# Altium footprint library B6-1.0mm-V1.PcbLib: 12 footprints
Each footprint in its own frame and in the unit in brackets; x right, y up, seen from the top. Pads: shape width x height; smd on the part's side, far side on the other; paste and mask are expansions set on the pad; w line width, h text height; cw(c..) or ccw(c..) is an arc to the next point about the centre after c.
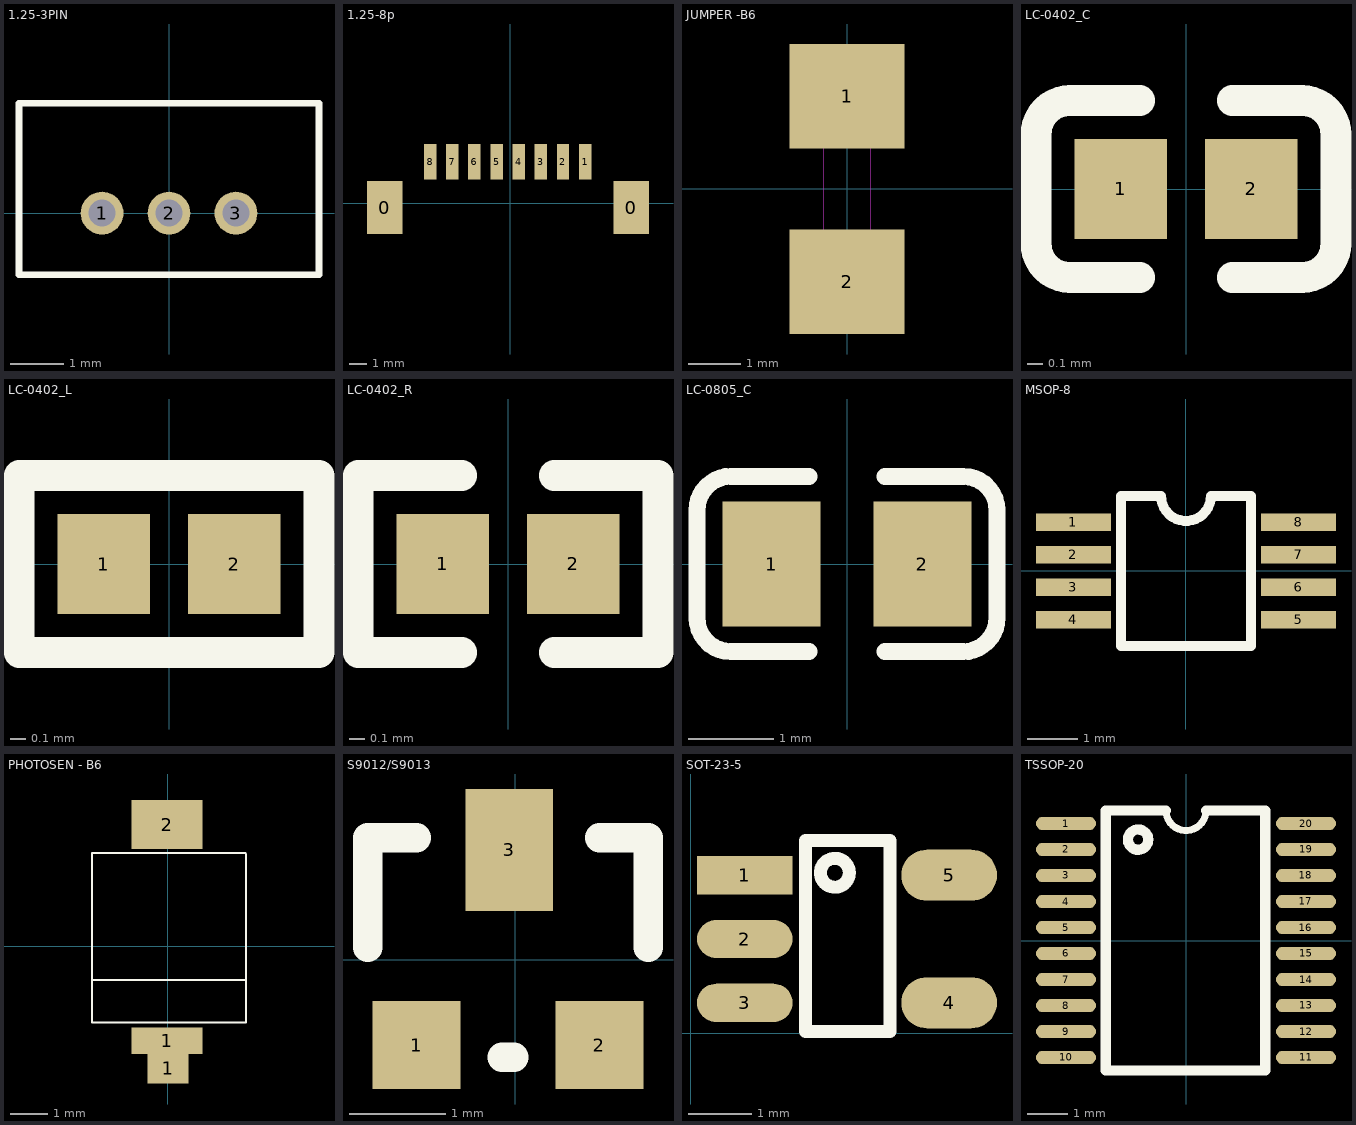
[diagram p0: the footprints below, top view; thin cyan lines are the x and y axes]

## 1.25-3PIN [mm]
height 0.102
pads (3):
  round 0.8 hole 0.5: 1(-1.25,0) 2(0,0) 3(1.25,0)
Top Overlay:
  lines w0.127: -2.8,-1.15 -2.8,2.05 2.8,2.05 2.8,-1.15 -2.8,-1.15

## 1.25-8p [mm]
pads (10):
  rect 2x3 smd: 0(-7.112,-0.254) 0(6.833,-0.254)
  rect 0.7x2 smd: 1(4.214,2.346) 2(2.964,2.346) 3(1.714,2.346) 4(0.464,2.346) 5(-0.786,2.346) 6(-2.036,2.346) 7(-3.286,2.346) 8(-4.536,2.346)

## JUMPER -B6 [mm]
height 0.102
pads (2):
  rect 2.2x2 smd: 1(0,1.778) 2(0,-1.778)
Keep-Out Layer:
  lines w0.013: -0.45,-2.35 0.45,-2.35 0.45,2.35 -0.45,2.35 -0.45,-2.35

## LC-0402_C [mm]
height 0.102
pads (2):
  rect 0.6x0.65 smd mask+0.051: 1(-0.425,0) 2(0.425,0)
Top Overlay:
  lines w0.2: -0.755,-0.575 cw(c-0.755,-0.355) -0.975,-0.355 -0.975,0.355 cw(c-0.755,0.355) -0.755,0.575 ; -0.75,-0.575 -0.3,-0.575 ; -0.75,0.575 -0.3,0.575 ; 0.3,-0.575 0.75,-0.575 ; 0.3,0.575 0.75,0.575 ; 0.755,-0.575 ccw(c0.755,-0.355) 0.975,-0.355 0.975,0.355 ccw(c0.755,0.355) 0.755,0.575
3D body: height 0.2, standoff 0, extent -0.483,-0.3 0.518,0.3

## LC-0402_L [mm]
height 0.102
pads (2):
  rect 0.6x0.65 smd mask+0.051: 1(-0.425,0) 2(0.425,0)
Top Overlay:
  lines w0.2: -0.975,-0.575 -0.975,0.575 0.975,0.575 0.975,-0.575 -0.975,-0.575
3D body: height 0.36, standoff -0.01, extent -0.512,-0.262 0.538,0.263

## LC-0402_R [mm]
height 0.102
pads (2):
  rect 0.6x0.65 smd mask+0.051: 1(-0.425,0) 2(0.425,0)
Top Overlay:
  lines w0.2: -0.3,-0.575 -0.975,-0.575 -0.975,0.575 -0.3,0.575 ; 0.3,-0.575 0.975,-0.575 0.975,0.575 0.3,0.575
3D body: height 0.41, standoff 0, extent -0.575,-0.275 0.575,0.275

## LC-0805_C [mm]
height 0.102
pads (2):
  rect 1.16x1.47 smd: 1(-0.89,0) 2(0.89,0)
Top Overlay:
  lines w0.2: -0.45,-1.035 -1.37,-1.035 cw(c-1.37,-0.635) -1.77,-0.635 -1.77,0.635 cw(c-1.37,0.635) -1.37,1.035 -0.45,1.035 ; 0.45,-1.035 1.37,-1.035 ccw(c1.37,-0.635) 1.77,-0.635 1.77,0.635 ccw(c1.37,0.635) 1.37,1.035 0.45,1.035
3D body: height 0.77, standoff -0.01, extent -0.999,-0.625 1.001,0.625

## MSOP-8 [mm] "TSOP"
height 1.1
pads (8):
  rect 1.5x0.35 smd: 1(-2.25,0.975) 2(-2.25,0.325) 3(-2.25,-0.325) 4(-2.25,-0.975) 5(2.25,-0.975) 6(2.25,-0.325) 7(2.25,0.325) 8(2.25,0.975)
Top Overlay:
  lines w0.2: -1.3,-1.5 -1.3,1.5 -0.5,1.5 ccw(c0,1.5) 0.5,1.5 1.3,1.5 1.3,-1.5 -1.3,-1.5

## PHOTOSEN - B6 [mm]
height 2.54
pads (3):
  rect 1.9x0.7 smd: 1(-0.013,-2.515)
  rect 1.1x0.8 smd: 1(0.013,-3.251)
  rect 1.9x1.3 smd: 2(-0.013,3.251)
Top Overlay:
  lines w0.05: -2.019,2.468 -2.019,-2.032 2.081,-2.032 ; -2.019,2.489 2.081,2.489 ; -1.994,-0.889 2.095,-0.889 ; 2.095,-2.032 2.095,2.468

## S9012/S9013 [mil]
height 4
pads (3):
  rect 35.98x35.98 smd: 1(-40.5,-35) 2(34.5,-35)
  rect 35.98x50 smd: 3(-2.51,45)
Top Overlay:
  lines w12: -60.5,5 -60.5,50 -40.5,50 ; -5.5,-40 -0.5,-40 ; 34.5,50 54.5,50 54.5,5

## SOT-23-5 [mm]
height 0.102
pads (5):
  rect 1.5x0.6 smd: 1(0.851,2.476)
  oval 1.5x0.6 smd: 2(0.851,1.476) 3(0.851,0.476)
  oval 1.5x0.8 smd: 4(4.054,0.476) 5(4.054,2.476)
Top Overlay:
  circle w0.203: c2.262,2.515 r0.227
  lines w0.203: 1.803,0.025 3.124,0.025 3.124,3.023 1.803,3.023 1.803,0.025

## TSSOP-20 [mm]
height 0.102
pads (20):
  oval 1.5x0.33 smd: 1(-3,2.925) 2(-3,2.275) 3(-3,1.625) 4(-3,0.975) 5(-3,0.325) 6(-3,-0.325) 7(-3,-0.975) 8(-3,-1.625) 9(-3,-2.275) 10(-3,-2.925) 11(3,-2.925) 12(3,-2.275) 13(3,-1.625) 14(3,-0.975) 15(3,-0.325) 16(3,0.325) 17(3,0.975) 18(3,1.625) 19(3,2.275) 20(3,2.925)
Top Overlay:
  circle w0.254: c-1.197,2.522 r0.254
  lines w0.178: -0.5,3.25 ccw(c0,3.25) 0.5,3.25
  lines w0.254: -0.5,3.25 -2.007,3.25 -2.007,-3.25 1.981,-3.25 1.981,3.25 0.5,3.25
3D body: height 1.11, standoff 1, extent -1.575,2.142 -0.816,2.903
3D body: height 1.1, standoff 0.52, extent -1.753,-3.353 1.752,-2.774
3D body: height 0.81, standoff 0, extent 1.462,-3.353 2.04,-2.775
3D body: height 1.1, standoff 0.52, extent 1.462,-3.353 2.039,-2.775
3D body: height 0.81, standoff 0, extent 1.464,-3.032 2.041,3.064
3D body: height 1.1, standoff 0.52, extent 1.463,-3.032 2.042,3.064
3D body: height 0.81, standoff 0, extent -1.752,-3.353 1.752,-2.775
3D body: height 1.1, standoff 0.52, extent -2.042,-3.353 -1.465,-2.775
3D body: height 0.81, standoff 0, extent -2.042,-3.353 -1.465,-2.775
3D body: height 0.81, standoff 0, extent 1.465,2.775 2.042,3.353
3D body: height 1.1, standoff 0.52, extent 1.465,2.775 2.042,3.353
3D body: height 0.81, standoff 0, extent -1.752,2.775 1.752,3.353
3D body: height 1.1, standoff 0.52, extent -2.042,-3.032 -1.463,3.068
3D body: height 0.81, standoff 0, extent -2.041,-3.032 -1.463,3.064
3D body: height 1.1, standoff 0.52, extent -2.039,2.775 -1.462,3.353
3D body: height 0.25, standoff 0, extent -3,2.775 -2.333,3.075
3D body: height 0.57, standoff 0, extent -2.51,2.775 -2.256,3.075
3D body: height 0.7, standoff 0.5, extent -2.384,2.775 -2.04,3.075
3D body: height 0.7, standoff 0.44, extent -2.51,2.775 -2.256,3.075
3D body: height 0.81, standoff 0, extent -2.04,2.775 -1.462,3.353
3D body: height 1.1, standoff 0.1, extent -1.752,-3.032 1.752,3.064
3D body: height 1.1, standoff 0.52, extent -1.752,2.774 1.753,3.353
3D body: height 0.7, standoff 0.44, extent -2.509,2.125 -2.256,2.425
3D body: height 0.7, standoff 0.5, extent -2.384,2.125 -2.04,2.425
3D body: height 0.57, standoff 0, extent -2.51,2.125 -2.256,2.425
3D body: height 0.25, standoff 0, extent -3,2.125 -2.333,2.425
3D body: height 0.7, standoff 0.44, extent -2.509,1.475 -2.256,1.775
3D body: height 0.7, standoff 0.5, extent -2.384,1.475 -2.04,1.775
3D body: height 0.57, standoff 0, extent -2.51,1.475 -2.256,1.775
3D body: height 0.25, standoff 0, extent -3,1.475 -2.333,1.775
3D body: height 0.7, standoff 0.44, extent -2.51,0.825 -2.256,1.125
3D body: height 0.7, standoff 0.5, extent -2.384,0.825 -2.04,1.125
3D body: height 0.57, standoff 0, extent -2.51,0.825 -2.256,1.125
3D body: height 0.25, standoff 0, extent -3,0.825 -2.333,1.125
3D body: height 0.7, standoff 0.44, extent -2.51,0.175 -2.256,0.475
3D body: height 0.7, standoff 0.5, extent -2.384,0.175 -2.04,0.475
3D body: height 0.57, standoff 0, extent -2.51,0.175 -2.256,0.475
3D body: height 0.25, standoff 0, extent -3,0.175 -2.333,0.475
3D body: height 0.7, standoff 0.44, extent -2.51,-0.475 -2.256,-0.175
3D body: height 0.7, standoff 0.5, extent -2.384,-0.475 -2.04,-0.175
3D body: height 0.57, standoff 0, extent -2.51,-0.475 -2.256,-0.175
3D body: height 0.25, standoff 0, extent -3,-0.475 -2.333,-0.175
3D body: height 0.7, standoff 0.44, extent -2.51,-1.125 -2.256,-0.825
3D body: height 0.7, standoff 0.5, extent -2.384,-1.125 -2.04,-0.825
3D body: height 0.57, standoff 0, extent -2.51,-1.125 -2.256,-0.825
3D body: height 0.25, standoff 0, extent -3,-1.125 -2.333,-0.825
3D body: height 0.7, standoff 0.44, extent -2.51,-1.775 -2.256,-1.475
3D body: height 0.7, standoff 0.5, extent -2.384,-1.775 -2.04,-1.475
3D body: height 0.57, standoff 0, extent -2.51,-1.775 -2.256,-1.475
3D body: height 0.25, standoff 0, extent -3,-1.775 -2.333,-1.475
3D body: height 0.7, standoff 0.44, extent -2.51,-2.425 -2.256,-2.125
3D body: height 0.7, standoff 0.5, extent -2.384,-2.425 -2.04,-2.125
3D body: height 0.57, standoff 0, extent -2.51,-2.425 -2.256,-2.125
3D body: height 0.25, standoff 0, extent -3,-2.425 -2.333,-2.125
3D body: height 0.7, standoff 0.44, extent -2.51,-3.075 -2.256,-2.775
3D body: height 0.7, standoff 0.5, extent -2.384,-3.075 -2.04,-2.775
3D body: height 0.57, standoff 0, extent -2.51,-3.075 -2.256,-2.775
3D body: height 0.25, standoff 0, extent -3,-3.075 -2.333,-2.775
3D body: height 0.7, standoff 0.44, extent 2.256,-3.075 2.51,-2.775
3D body: height 0.7, standoff 0.5, extent 2.04,-3.075 2.384,-2.775
3D body: height 0.57, standoff 0, extent 2.256,-3.075 2.51,-2.775
3D body: height 0.25, standoff 0, extent 2.333,-3.075 3,-2.775
3D body: height 0.7, standoff 0.44, extent 2.256,-2.425 2.51,-2.125
3D body: height 0.7, standoff 0.5, extent 2.04,-2.425 2.384,-2.125
3D body: height 0.57, standoff 0, extent 2.256,-2.425 2.51,-2.125
3D body: height 0.25, standoff 0, extent 2.333,-2.425 3,-2.125
3D body: height 0.7, standoff 0.44, extent 2.256,-1.775 2.509,-1.475
3D body: height 0.7, standoff 0.5, extent 2.04,-1.775 2.384,-1.475
3D body: height 0.57, standoff 0, extent 2.256,-1.775 2.51,-1.475
3D body: height 0.25, standoff 0, extent 2.333,-1.775 3,-1.475
3D body: height 0.7, standoff 0.44, extent 2.256,-1.125 2.51,-0.825
3D body: height 0.7, standoff 0.5, extent 2.04,-1.125 2.384,-0.825
3D body: height 0.57, standoff 0, extent 2.256,-1.125 2.51,-0.825
3D body: height 0.25, standoff 0, extent 2.333,-1.125 3,-0.825
3D body: height 0.7, standoff 0.44, extent 2.256,-0.475 2.51,-0.175
3D body: height 0.7, standoff 0.5, extent 2.04,-0.475 2.384,-0.175
3D body: height 0.57, standoff 0, extent 2.256,-0.475 2.51,-0.175
3D body: height 0.25, standoff 0, extent 2.333,-0.475 3,-0.175
3D body: height 0.7, standoff 0.44, extent 2.256,0.175 2.509,0.475
3D body: height 0.7, standoff 0.5, extent 2.04,0.175 2.384,0.475
3D body: height 0.57, standoff 0, extent 2.256,0.175 2.51,0.475
3D body: height 0.25, standoff 0, extent 2.333,0.175 3,0.475
3D body: height 0.7, standoff 0.44, extent 2.256,0.825 2.509,1.125
3D body: height 0.7, standoff 0.5, extent 2.04,0.825 2.384,1.125
3D body: height 0.57, standoff 0, extent 2.256,0.825 2.51,1.125
3D body: height 0.25, standoff 0, extent 2.333,0.825 3,1.125
3D body: height 0.7, standoff 0.44, extent 2.256,1.475 2.509,1.775
3D body: height 0.7, standoff 0.5, extent 2.04,1.475 2.384,1.775
3D body: height 0.57, standoff 0, extent 2.256,1.475 2.51,1.775
3D body: height 0.25, standoff 0, extent 2.333,1.475 3,1.775
3D body: height 0.7, standoff 0.44, extent 2.256,2.125 2.509,2.425
3D body: height 0.7, standoff 0.5, extent 2.04,2.125 2.384,2.425
3D body: height 0.57, standoff 0, extent 2.256,2.125 2.51,2.425
3D body: height 0.25, standoff 0, extent 2.333,2.125 3,2.425
3D body: height 0.7, standoff 0.44, extent 2.251,2.743 2.504,3.043
3D body: height 0.7, standoff 0.5, extent 2.035,2.743 2.379,3.043
3D body: height 0.57, standoff 0, extent 2.25,2.743 2.504,3.043
3D body: height 0.25, standoff 0, extent 2.328,2.743 2.995,3.043